# EAGLE library part PINEDGE (library 5169-SidePins)
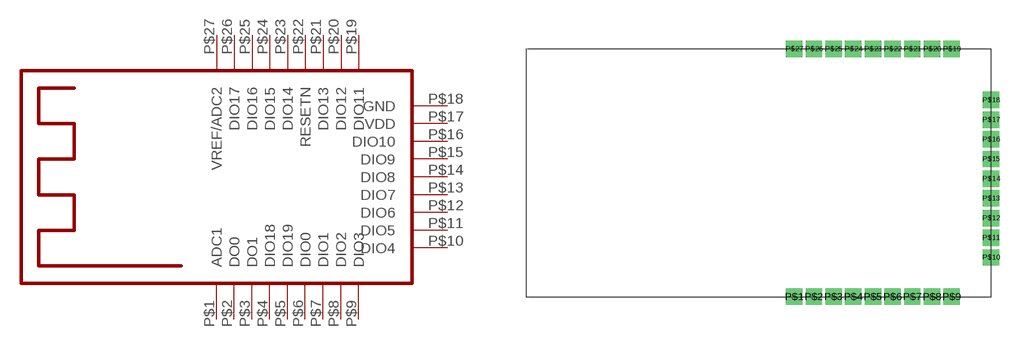
[diagram p0: symbol with the pads of SIDEPINS; footprint SIDEPINS]

Designator prefix -

## PINEDGE  [SIDEPINS]
P$1  ADC1
P$2  DO0
P$3  DO1
P$4  DIO18
P$5  DIO19
P$6  DIO0
P$7  DIO1
P$8  DIO2
P$9  DIO3
P$10  DIO4
P$11  DIO5
P$12  DIO6
P$13  DIO7
P$14  DIO8
P$15  DIO9
P$16  DIO10
P$17  VDD
P$18  GND
P$19  DIO11
P$20  DIO12
P$21  DIO13
P$22  RESETN
P$23  DIO14
P$24  DIO15
P$25  DIO16
P$26  DIO17
P$27  VREF/ADC2

## Footprint SIDEPINS (pad centres in mm)
drill 0.55 pad 0.95 square: P$1 0,0.002; P$2 1.27,0.002; P$3 2.54,0.002; P$4 3.81,0.002; P$5 5.08,0.002; P$6 6.35,0.002; P$7 7.62,0.002; P$8 8.89,0.002; P$9 10.16,0.002; P$10 12.7,2.542; P$11 12.7,3.812; P$12 12.7,5.082; P$13 12.7,6.352; P$14 12.7,7.622; P$15 12.7,8.892; P$16 12.7,10.162; P$17 12.7,11.432; P$18 12.7,12.702; P$19 10.16,16.002; P$20 8.89,16.002; P$21 7.62,16.002; P$22 6.35,16.002; P$23 5.08,16.002; P$24 3.81,16.002; P$25 2.54,16.002; P$26 1.27,16.002; P$27 0,16.002